# Altium footprint library PcbLib1.PcbLib: 29 footprints (part 1 of 2)
Each footprint in its own frame and in the unit in brackets; x right, y up, seen from the top. Pads: shape width x height; smd on the part's side, far side on the other; paste and mask are expansions set on the pad; w line width, h text height; cw(c..) or ccw(c..) is an arc to the next point about the centre after c.
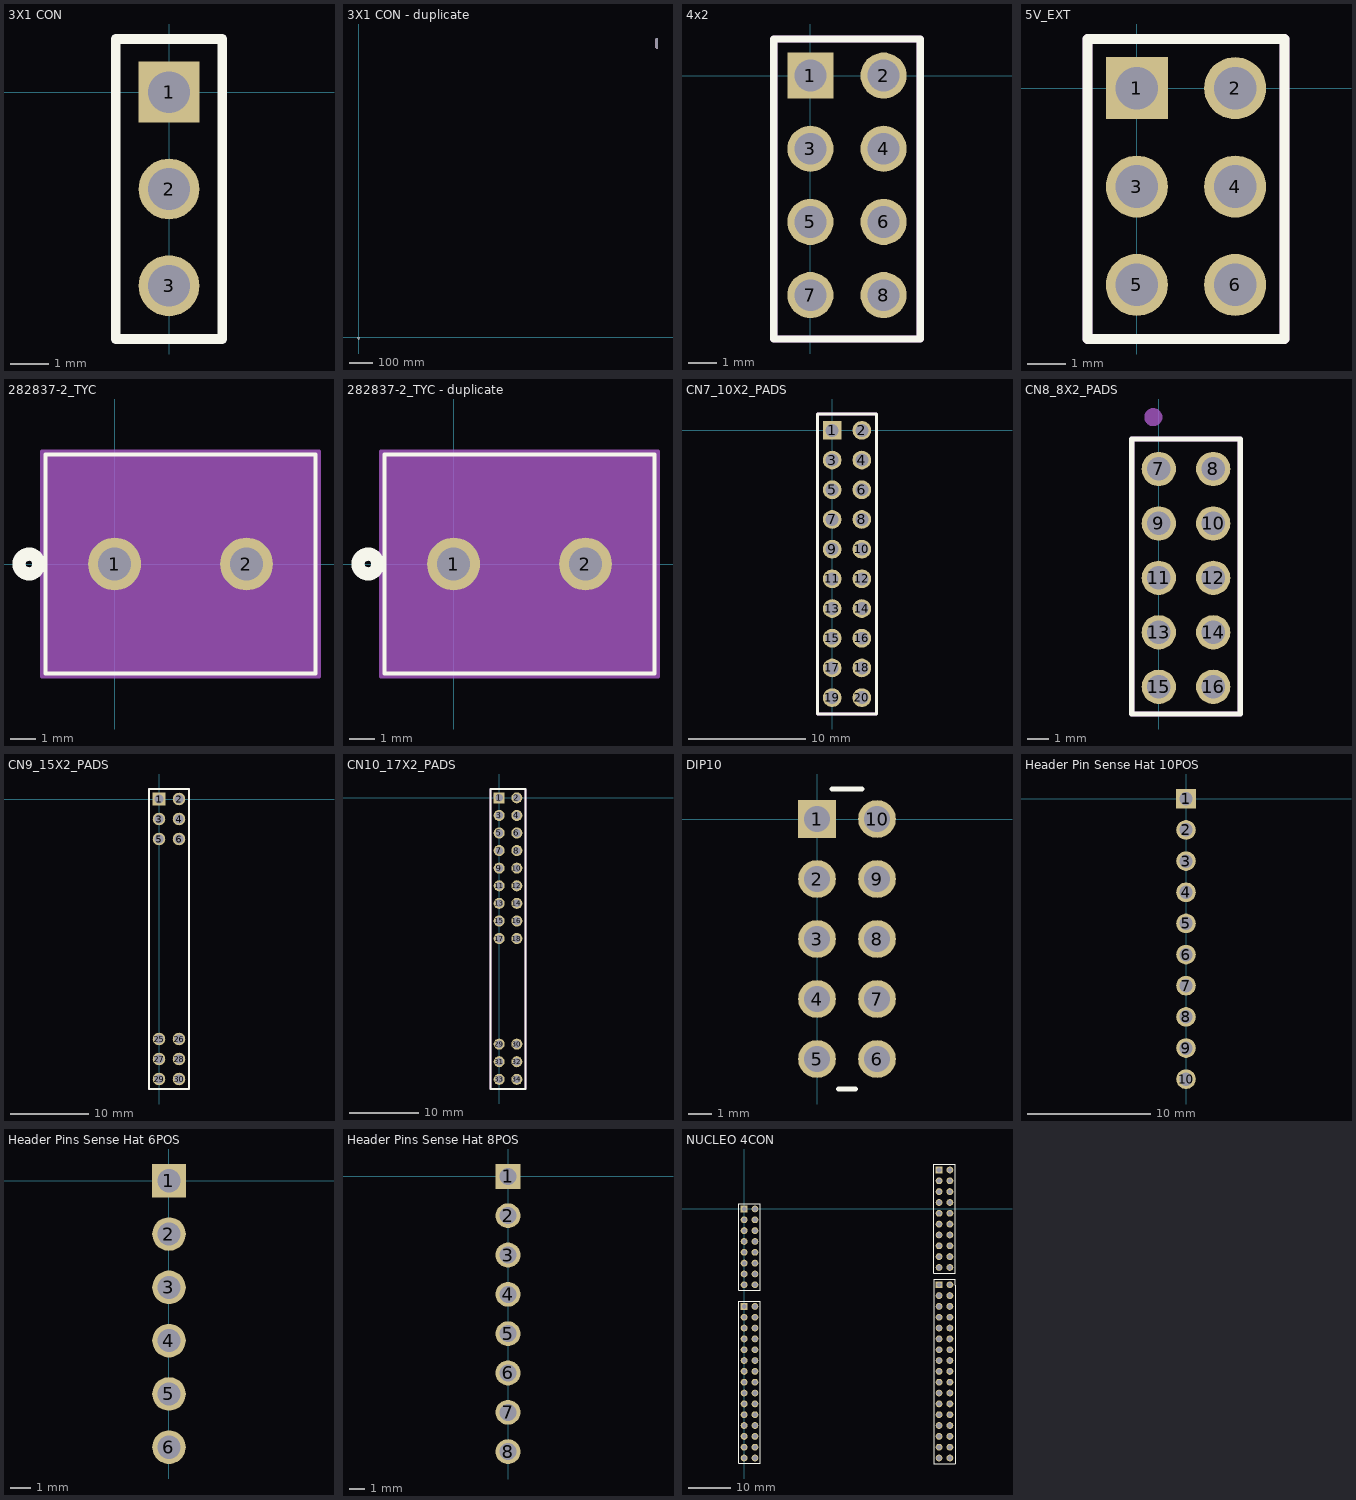
[diagram p0: the footprints below, top view; thin cyan lines are the x and y axes]

## 3X1 CON [mm]
pads (3):
  rect 1.6x1.6 hole 1.1: 1(0,0)
  round 1.6 hole 1.1: 2(0,-2.54) 3(0,-5.08)
Top Overlay:
  lines w0.254: -1.397,-6.477 -1.397,1.397 1.397,1.397 1.397,-6.477 -1.397,-6.477

## 3X1 CON - duplicate [mm]
pads (33):
  rect 1.6x1.6 hole 1.1: 1(0,0) 1(1267.587,1268.095)
  round 1.6 hole 1.1: 2(0,-2.54) 2(1270.127,1268.095) 3(0,-5.08) 3(1267.587,1265.555) 4(1270.127,1265.555) 5(1267.587,1263.015) 6(1270.127,1263.015) 7(1267.587,1260.475) 8(1270.127,1260.475) 9(1267.587,1257.935) 10(1270.127,1257.935) 11(1267.587,1255.395) 12(1270.127,1255.395) 13(1267.587,1252.855) 14(1270.127,1252.855) 15(1267.587,1250.315) 16(1270.127,1250.315) 17(1267.587,1247.775) 18(1270.127,1247.775) 19(1267.587,1245.235) 20(1270.127,1245.235) 21(1267.587,1242.695) 22(1270.127,1242.695) 23(1267.587,1240.155) 24(1270.127,1240.155) 25(1267.587,1237.615) 26(1270.127,1237.615) 27(1267.587,1235.075) 28(1270.127,1235.075) 29(1267.587,1232.535) 30(1270.127,1232.535)
Top Overlay:
  lines w0.254: -1.397,-6.477 1.397,-6.477 1.397,1.397 -1.397,1.397 -1.397,-6.477 ; 1266.317,1231.265 1271.397,1231.265 1271.397,1269.365 1266.317,1269.365 1266.317,1231.265
Mechanical 29:
  circle w0.54: c1267.333,1268.222 r0.15
  lines w0.254: 1266.317,1231.265 1266.317,1269.365 1271.397,1269.365 1271.397,1231.265 1266.317,1231.265
  text ".Designator" at 1269.681,1264.612 h1.5

## 4x2 [mm]
pads (8):
  rect 1.6x1.6 hole 1.1: 1(0,0)
  round 1.6 hole 1.1: 2(2.54,0) 3(0,-2.54) 4(2.54,-2.54) 5(0,-5.08) 6(2.54,-5.08) 7(0,-7.62) 8(2.54,-7.62)
Top Overlay:
  lines w0.254: -1.27,-9.144 3.81,-9.144 3.81,1.27 -1.27,1.27 -1.27,-9.144
Mechanical 29:
  circle w0.54: c-0.254,0.127 r0.15
  lines w0.254: -1.27,-9.144 3.81,-9.144 3.81,1.27 -1.27,1.27 -1.27,-9.144
  text ".Designator" at -1.705,2.478 h1.5

## 5V_EXT [mm]
pads (6):
  rect 1.6x1.6 hole 1.1: 1(0,0)
  round 1.6 hole 1.1: 2(2.54,0) 3(0,-2.54) 4(2.54,-2.54) 5(0,-5.08) 6(2.54,-5.08)
Top Overlay:
  lines w0.254: -1.27,-6.477 3.81,-6.477 3.81,1.27 -1.27,1.27 -1.27,-6.477
Mechanical 29:
  circle w0.54: c-0.254,0.127 r0.15
  lines w0.254: -1.27,-6.477 3.81,-6.477 3.81,1.27 -1.27,1.27 -1.27,-6.477
  text ".Designator" at -1.705,2.478 h1.5

## 282837-2_TYC [mil]
pads (2):
  round 80 / inner round 60 / far side round 80 hole 50 paste-99999 mask-40: 1(0,0) 2(200,0)
Top Overlay:
  circle w20: c-130,0 r15
  lines w6: -105,-166 -105,166 305,166 305,-166 -105,-166
Bottom Overlay:
  circle w20: c-130,0 r15
Mechanical 13:
  circle w20: c0,75 r15
  lines w1: -100,-161 -100,161 300,161 300,-161 -100,-161
Mechanical 15:
  region: 310,171 -110,171 -110,-171 310,-171
  lines w6: -110,-171 310,-171 310,171 -110,171 -110,-171

## 282837-2_TYC - duplicate [mil]
pads (2):
  round 80 / inner round 60 / far side round 80 hole 50 paste-99999 mask-40: 1(0,0) 2(200,0)
Top Overlay:
  circle w20: c-130,0 r15
  lines w6: -105,-166 -105,166 305,166 305,-166 -105,-166
Bottom Overlay:
  circle w20: c-130,0 r15
Mechanical 13:
  circle w20: c0,75 r15
  lines w1: -100,-161 -100,161 300,161 300,-161 -100,-161
Mechanical 15:
  region: 310,171 -110,171 -110,-171 310,-171
  lines w6: -110,-171 310,-171 310,171 -110,171 -110,-171

## CN7_10X2_PADS [mm]
pads (20):
  rect 1.6x1.6 hole 1.1: 1(0,0)
  round 1.6 hole 1.1: 2(2.54,0) 3(0,-2.54) 4(2.54,-2.54) 5(0,-5.08) 6(2.54,-5.08) 7(0,-7.62) 8(2.54,-7.62) 9(0,-10.16) 10(2.54,-10.16) 11(0,-12.7) 12(2.54,-12.7) 13(0,-15.24) 14(2.54,-15.24) 15(0,-17.78) 16(2.54,-17.78) 17(0,-20.32) 18(2.54,-20.32) 19(0,-22.86) 20(2.54,-22.86)
Top Overlay:
  lines w0.254: -1.27,-24.257 1.524,-24.257 2.667,-24.257 3.81,-24.257 3.81,-23.114 3.81,0 3.81,1.397 -1.27,1.397 -1.27,-24.257
Mechanical 29:
  circle w0.54: c-0.381,0.381 r0.15
  lines w0.254: -1.27,-24.257 1.524,-24.257 2.667,-24.257 3.81,-24.257 3.81,-23.114 3.81,0 3.81,1.397 -1.27,1.397 -1.27,-24.257
  text ".Designator" at 1.89,-1.882 h1.5

## CN8_8X2_PADS [mm]
pads (10):
  round 1.6 hole 1.1: 7(0,-7.62) 8(2.54,-7.62) 9(0,-10.16) 10(2.54,-10.16) 11(0,-12.7) 12(2.54,-12.7) 13(0,-15.24) 14(2.54,-15.24) 15(0,-17.78) 16(2.54,-17.78)
Top Overlay:
  lines w0.254: -1.27,-19.05 3.81,-19.05 3.81,-6.223 -1.27,-6.223 -1.27,-19.05
Mechanical 29:
  circle w0.54: c-0.254,-5.207 r0.15
  lines w0.254: -1.27,-19.05 -1.27,-6.223 3.81,-6.223 3.81,-19.05 -1.27,-19.05
  text ".DESIGNATOR" at 2.086,-5.515 h1.5

## CN9_15X2_PADS [mm]
pads (12):
  rect 1.6x1.6 hole 1.1: 1(0,0)
  round 1.6 hole 1.1: 2(2.54,0) 3(0,-2.54) 4(2.54,-2.54) 5(0,-5.08) 6(2.54,-5.08) 25(0,-30.48) 26(2.54,-30.48) 27(0,-33.02) 28(2.54,-33.02) 29(0,-35.56) 30(2.54,-35.56)
Top Overlay:
  lines w0.254: -1.27,-36.83 3.81,-36.83 3.81,1.27 -1.27,1.27 -1.27,-36.83
Mechanical 29:
  circle w0.54: c-0.254,0.127 r0.15
  lines w0.254: -1.27,-36.83 -1.27,1.27 3.81,1.27 3.81,-36.83 -1.27,-36.83
  text ".Designator" at 2.094,-3.483 h1.5

## CN10_17X2_PADS [mm]
pads (24):
  rect 1.6x1.6 hole 1.1: 1(0,0)
  round 1.6 hole 1.1: 2(2.54,0) 3(0,-2.54) 4(2.54,-2.54) 5(0,-5.08) 6(2.54,-5.08) 7(0,-7.62) 8(2.54,-7.62) 9(0,-10.16) 10(2.54,-10.16) 11(0,-12.7) 12(2.54,-12.7) 13(0,-15.24) 14(2.54,-15.24) 15(0,-17.78) 16(2.54,-17.78) 17(0,-20.32) 18(2.54,-20.32) 29(0,-35.56) 30(2.54,-35.56) 31(0,-38.1) 32(2.54,-38.1) 33(0,-40.64) 34(2.54,-40.64)
Top Overlay:
  lines w0.254: -1.27,-42.037 -1.27,1.27 3.81,1.27 3.81,-0.127 3.81,-42.037 -1.27,-42.037
Mechanical 29:
  circle w0.54: c-0.381,0.254 r0.15
  lines w0.254: -1.27,-42.037 3.81,-42.037 3.81,-0.127 3.81,1.27 -1.27,1.27 -1.27,-42.037
  text ".Designator" at 1.763,-1.882 h1.5

## CN 3PIN [mm]

## DIP10 [mm]
pads (10):
  rect 1.6x1.6 hole 1.1: 1(0,0)
  round 1.6 hole 1.1: 2(0,-2.54) 3(0,-5.08) 4(0,-7.62) 5(0,-10.16) 6(2.54,-10.16) 7(2.54,-7.62) 8(2.54,-5.08) 9(2.54,-2.54) 10(2.54,0)
Top Overlay:
  lines w0.2: 0.635,1.27 1.635,1.27 ; 0.905,-11.43 1.635,-11.43 ; 0.905,1.27 1.905,1.27

## Header Pin Sense Hat 10POS [mm]
pads (10):
  rect 1.6x1.6 hole 1.1: 1(0,0)
  round 1.6 hole 1.1: 2(0,-2.54) 3(0,-5.08) 4(0,-7.62) 5(0,-10.16) 6(0,-12.7) 7(0,-15.24) 8(0,-17.78) 9(0,-20.32) 10(0,-22.86)

## Header Pins Sense Hat 6POS [mm]
pads (6):
  rect 1.6x1.6 hole 1.1: 1(0,0)
  round 1.6 hole 1.1: 2(0,-2.54) 3(0,-5.08) 4(0,-7.62) 5(0,-10.16) 6(0,-12.7)

## Header Pins Sense Hat 8POS [mm]
pads (8):
  rect 1.6x1.6 hole 1.1: 1(0,0)
  round 1.6 hole 1.1: 2(0,-2.54) 3(0,-5.08) 4(0,-7.62) 5(0,-10.16) 6(0,-12.7) 7(0,-15.24) 8(0,-17.78)

## NUCLEO 4CON [mm]
pads (100):
  rect 1.6x1.6 hole 1.1: 1(0,0) 17(45.72,9.144) 37(0,-22.86) 67(45.72,-17.78)
  round 1.6 hole 1.1: 2(0,-2.54) 3(0,-5.08) 4(0,-7.62) 5(0,-10.16) 6(0,-12.7) 7(0,-15.24) 8(0,-17.78) 9(2.54,0) 10(2.54,-2.54) 11(2.54,-5.08) 12(2.54,-7.62) 13(2.54,-10.16) 14(2.54,-12.7) 15(2.54,-15.24) 16(2.54,-17.78) 18(45.72,6.604) 19(45.72,4.064) 20(45.72,1.524) 21(45.72,-1.016) 22(45.72,-3.556) 23(45.72,-6.096) 24(45.72,-8.636) 25(45.72,-11.176) 26(45.72,-13.716) 27(48.26,9.144) 28(48.26,6.604) 29(48.26,4.064) 30(48.26,1.524) 31(48.26,-1.016) 32(48.26,-3.556) 33(48.26,-6.096) 34(48.26,-8.636) 35(48.26,-11.176) 36(48.26,-13.716) 38(0,-25.4) 39(0,-27.94) 40(0,-30.48) 41(0,-33.02) 42(0,-35.56) 43(0,-38.1) 44(0,-40.64) 45(0,-43.18) 46(0,-45.72) 47(0,-48.26) 48(0,-50.8) 49(0,-53.34) 50(0,-55.88) 51(0,-58.42) 52(2.54,-22.86) 53(2.54,-25.4) 54(2.54,-27.94) 55(2.54,-30.48) 56(2.54,-33.02) 57(2.54,-35.56) 58(2.54,-38.1) 59(2.54,-40.64) 60(2.54,-43.18) 61(2.54,-45.72) 62(2.54,-48.26) 63(2.54,-50.8) 64(2.54,-53.34) 65(2.54,-55.88) 66(2.54,-58.42) 68(45.72,-20.32) 69(45.72,-22.86) 70(45.72,-25.4) 71(45.72,-27.94) 72(45.72,-30.48) 73(45.72,-33.02) 74(45.72,-35.56) 75(45.72,-38.1) 76(45.72,-40.64) 77(45.72,-43.18) 78(45.72,-45.72) 79(45.72,-48.26) 80(45.72,-50.8) 81(45.72,-53.34) 82(45.72,-55.88) 83(45.72,-58.42) 84(48.26,-17.78) 85(48.26,-20.32) 86(48.26,-22.86) 87(48.26,-25.4) 88(48.26,-27.94) 89(48.26,-30.48) 90(48.26,-33.02) 91(48.26,-35.56) 92(48.26,-38.1) 93(48.26,-40.64) 94(48.26,-43.18) 95(48.26,-45.72) 96(48.26,-48.26) 97(48.26,-50.8) 98(48.26,-53.34) 99(48.26,-55.88) 100(48.26,-58.42)
Top Overlay:
  lines w0.254: -1.27,-59.69 -1.27,-21.59 3.81,-21.59 3.81,-59.69 -1.27,-59.69 ; -1.27,-19.05 3.81,-19.05 3.81,1.27 -1.27,1.27 -1.27,-19.05 ; 44.45,-59.817 44.45,-16.51 49.53,-16.51 49.53,-17.907 49.53,-59.817 44.45,-59.817 ; 44.45,-15.113 47.244,-15.113 48.387,-15.113 49.53,-15.113 49.53,-13.97 49.53,9.144 49.53,10.541 44.45,10.541 44.45,-15.113